# EAGLE library part FT04-10 (library 0TRAFO)
TRANSFORMER 2 primary winding, 2 secondary windings, mounting holes ERA
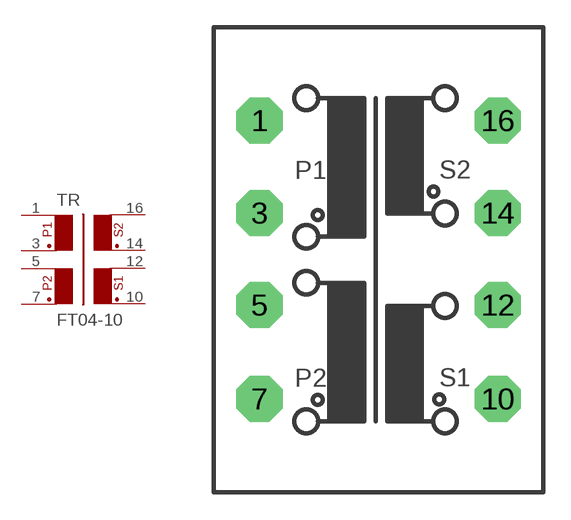
[diagram p41: symbol with the pads of FT04-10; footprint FT04-10]

Designator prefix TR

## FT04-10  [FT04-10]
1  1  pas
3  2  pas
5  3  pas
7  4  pas
10  5  pas
12  6  pas
14  7  pas
16  8  pas

## Footprint FT04-10 (pad centres in mm)
TRANSFORMER 2 primary winding, 2 secondary windings, mounting holes
drill 1.1 pad 2.54 octagon: 1 -6.071,7.658; 3 -6.071,2.572; 5 -6.071,-2.489; 7 -6.071,-7.655; 10 7.023,-7.655; 12 7.023,-2.489; 14 7.023,2.572; 16 7.023,7.658